# Altium schematic symbol library IND_SHIELDED_DUAL.Schlib: 1 symbol
Pins are listed as number, name and electrical type; pins without a type are passive.

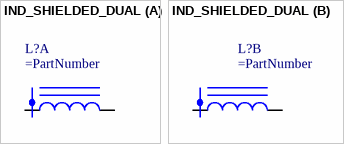
[diagram p0: symbol IND_SHIELDED_DUAL]

## IND_SHIELDED_DUAL
designator L?
INDUCTOR
part A pins: 1, 3
part B pins: 2, 4